# Altium integrated library 整流桥.IntLib: 1 symbol
Pins are listed as number, name and electrical type; pins without a type are passive.

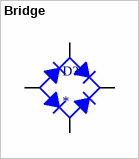
[diagram p0: symbol Bridge]

## Bridge
designator D?
footprint br3
footprint BR8
footprint DB
footprint DBS
footprint GBP
footprint GBU
footprint KBP
footprint MBF
footprint MBM
footprint MBS
footprint WOM
pins: AC1, AC2, DC+, DC-